# Altium footprint library myConnectors.PcbLib: 58 footprints (part 2 of 4)
Each footprint in its own frame and in the unit in brackets; x right, y up, seen from the top. Pads: shape width x height; smd on the part's side, far side on the other; paste and mask are expansions set on the pad; w line width, h text height; cw(c..) or ccw(c..) is an arc to the next point about the centre after c.
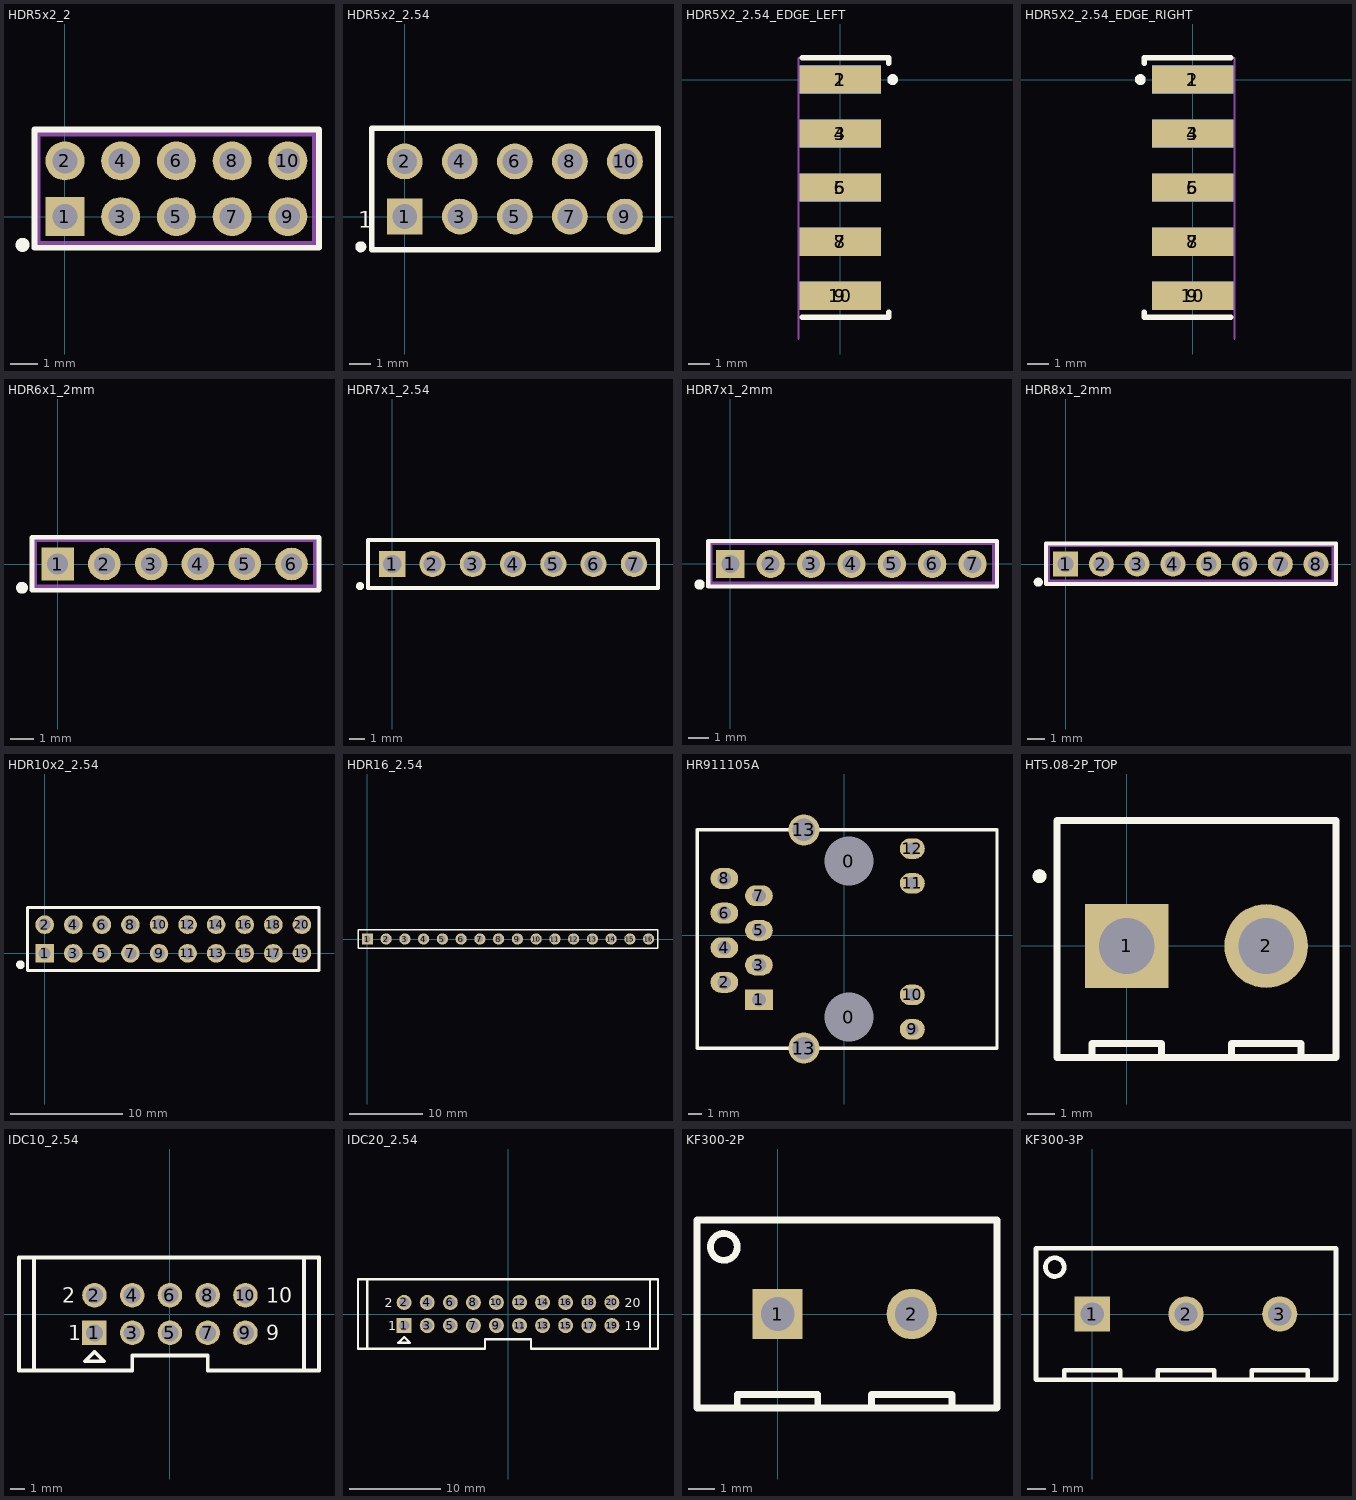
[diagram p1: the footprints below, top view; thin cyan lines are the x and y axes]

## HDR5x2_2 [mil]
height 354.33
pads (10):
  rect 55x55 hole 35: 1(0,0)
  round 55 hole 35: 2(0,78.74) 3(78.74,0) 4(78.74,78.74) 5(157.48,0) 6(157.48,78.74) 7(236.22,0) 8(236.22,78.74) 9(314.96,0) 10(314.96,78.74)
Top Overlay:
  circle w10: c-60,-40 r5
  lines w8: -43,-44 -43,123 359,123 359,-44 -43,-44
Mechanical 13:
  lines w10: -39.37,-39.37 354.33,-39.37 354.33,118.11 -39.37,118.11 -39.37,-39.37
3D body: height 354.33, standoff 0, extent -40,-40 355,120

## HDR5x2_2.54 [mil]
pads (10):
  rect 65x65 hole 45: 1(0,0)
  round 65 hole 45: 2(0,100) 3(100,0) 4(100,100) 5(200,0) 6(200,100) 7(300,0) 8(300,100) 9(400,0) 10(400,100)
Top Overlay:
  circle w10: c-80,-55 r5
  lines w10: -60,-60 -60,160 460,160 460,-60 -60,-60
  text "1" at -85,-20 h30
3D body: height 10, standoff 0, extent -60,-60 460,160

## HDR5X2_2.54_EDGE_LEFT [mil]
height 157.48
pads (10):
  rect 150x52 smd: 1(0,0) 3(0,-100) 5(0,-200) 7(0,-300) 9(0,-400)
  rect 150x52 smd far side: 2(0,0) 4(0,-100) 6(0,-200) 8(0,-300) 10(0,-400)
Top Overlay:
  circle w10: c97,0 r5
  lines w10: -70,-440 90,-440 90,-430 ; -70,40 90,40 90,30
Mechanical 1:
  lines w3.94: -77.03,-480 -77.03,40
  text "Edge" at -70,-441 h9.84
3D body: height 10, standoff 0, extent -70,-420 70,20
3D body: height 10, standoff 0, extent -70,-420 70,20

## HDR5X2_2.54_EDGE_RIGHT [mil]
height 157.48
pads (10):
  rect 150x52 smd: 1(0,0) 3(0,-100) 5(0,-200) 7(0,-300) 9(0,-400)
  rect 150x52 smd far side: 2(0,0) 4(0,-100) 6(0,-200) 8(0,-300) 10(0,-400)
Top Overlay:
  circle w10: c-97,0 r5
  lines w10: -90,-430 -90,-440 70,-440 ; -90,30 -90,40 70,40
Mechanical 1:
  lines w3.94: 77.03,-480 77.03,40
  text "Edge" at 69,-477 h9.84
3D body: height 10, standoff 0, extent -70,-420 70,20
3D body: height 10, standoff 0, extent -70,-420 70,20

## HDR6x1_2mm [mil]
height 354.33
pads (6):
  rect 55x55 hole 35: 1(0,0)
  round 55 hole 35: 2(78.74,0) 3(157.48,0) 4(236.22,0) 5(314.96,0) 6(393.7,0)
Top Overlay:
  circle w10: c-60,-40 r5
  lines w8: -43,-44 -43,45 440,45 440,-44 -43,-44
Mechanical 13:
  lines w10: -39.37,-39.37 435,-39.37 435,42 -39.37,42 -39.37,-39.37
3D body: height 354.33, standoff 0, extent -43,-45 440,45

## HDR7x1_2.54 [mil]
pads (7):
  rect 65x65 hole 45: 1(0,0)
  round 65 hole 45: 2(100,0) 3(200,0) 4(300,0) 5(400,0) 6(500,0) 7(600,0)
Top Overlay:
  circle w10: c-80,-55 r5
  lines w10: -60,-60 -60,60 660,60 660,-60 -60,-60
3D body: height 10, standoff 0, extent -60,-60 660,60

## HDR7x1_2mm [mil]
height 354.33
pads (7):
  rect 55x55 hole 35: 1(0,0)
  round 55 hole 35: 2(78.74,0) 3(157.48,0) 4(236.22,0) 5(314.96,0) 6(393.7,0) 7(472.44,0)
Top Overlay:
  circle w10: c-60,-40 r5
  lines w8: -43,-44 -43,45 520,45 520,-44 -43,-44
Mechanical 13:
  lines w10: -39.37,-39.37 515,-39.37 515,42 -39.37,42 -39.37,-39.37
3D body: height 354.33, standoff 0, extent -40,-40 520,40

## HDR8x1_2mm [mil]
height 354.33
pads (8):
  rect 55x55 hole 35: 1(0,0)
  round 55 hole 35: 2(78.74,0) 3(157.48,0) 4(236.22,0) 5(314.96,0) 6(393.7,0) 7(472.44,0) 8(551.18,0)
Top Overlay:
  circle w10: c-60,-40 r5
  lines w8: -43,-44 595,-44 595,45 -43,45 -43,-44
Mechanical 13:
  lines w10: -39.37,-39.37 -39.37,42 590,42 590,-39.37 -39.37,-39.37
3D body: height 354.33, standoff 0, extent -40,-40 595,40

## HDR10x2_2.54 [mil]
height 354.33
pads (20):
  rect 65x65 hole 42: 1(0,0)
  round 65 hole 42: 2(0,100) 3(100,0) 4(100,100) 5(200,0) 6(200,100) 7(300,0) 8(300,100) 9(400,0) 10(400,100) 11(500,0) 12(500,100) 13(600,0) 14(600,100) 15(700,0) 16(700,100) 17(800,0) 18(800,100) 19(900,0) 20(900,100)
Top Overlay:
  circle w20: c-85,-40 r5
  lines w10: -60,-60 -60,160 960,160 960,-60 -60,-60
3D body: height 354.44, standoff 0, extent -60,-60 960,160

## HDR16_2.54 [mil] "Connector; Header; 16 Position"
pads (16):
  rect 60x60 hole 35.43: 1(0,0)
  round 60 hole 35.43: 2(100,0) 3(200,0) 4(300,0) 5(400,0) 6(500,0) 7(600,0) 8(700,0) 9(800,0) 10(900,0) 11(1000,0) 12(1100,0) 13(1200,0) 14(1300,0) 15(1400,0) 16(1500,0)
Top Overlay:
  lines w7.87: -50,-50 -50,50 25,50 1550,50 1550,-50 -50,-50
3D body: height 100, standoff 0, extent -50,-50 1550,50

## HR911105A [mil] "Ethernet Socket with Transformer"
pads (16):
  round 126 hole 141.6 unplated: 0(13,-236) 0(13,214)
  rect 80x60 hole 40: 1(-247,-186)
  oval 80x60 hole 40: 2(-347,-136) 3(-247,-86) 4(-347,-36) 5(-247,14) 6(-347,64) 7(-247,114) 8(-347,164)
  oval 72x60 hole 36: 9(195.91,-271.63) 10(195.91,-172) 11(195.91,149.87) 12(195.91,250)
  round 90 hole 65: 13(-117.08,-325.76) 13(-117.08,304.16)
Top Overlay:
  lines w10: -425.74,-326 -425.5,-325.76 ; -425.74,304 -425.58,304.16 ; -425.58,304.16 -425.58,-325.69 -425.5,-325.76 ; -425.58,304.16 -117.08,304.16 440.24,304.16 440.4,304 440.4,-326 440.17,-325.76 -117.08,-325.76 -425.5,-325.76
3D body: height 100, standoff 0, extent -425,-326 441,303

## HT5.08-2P_TOP [mil]
height 618.11
pads (2):
  rect 120x120 hole 80: 1(0,0)
  round 120 hole 80: 2(200,0)
Top Overlay:
  circle w10: c-125,100 r5
  lines w10: -50,-160 -50,-140 50,-140 50,-150 50,-160 ; 150,-160 150,-140 250,-140 250,-160 ; -100,-160 300,-160 300,180 -100,180 -100,-160
3D body: height 402, standoff 0, extent -100,-160 300,180

## IDC10_2.54 [mil]
pads (10):
  rect 65x65 hole 45: 1(-200,-50)
  round 65 hole 45: 2(-200,50) 3(-100,-50) 4(-100,50) 5(0,-50) 6(0,50) 7(100,-50) 8(100,50) 9(200,-50) 10(200,50)
Top Overlay:
  lines w10: -360,-150 -360,150 ; 355,-150 355,150 ; -400,-150 -100,-150 -100,-110 100,-110 100,-150 395,-150 395,150 -400,150 -400,-150 ; -225,-125 -200,-100 -175,-125 -225,-125
  text "10" at 255,30 h40
  text "1" at -270,-70 h40
  text "2" at -285,30 h40
  text "9" at 255,-70 h40
3D body: height 10, standoff 0, extent -400,-150 395,150

## IDC20_2.54 [mil]
pads (20):
  rect 65x65 hole 45: 1(-450,-50)
  round 65 hole 45: 2(-450,50) 3(-350,-50) 4(-350,50) 5(-250,-50) 6(-250,50) 7(-150,-50) 8(-150,50) 9(-50,-50) 10(-50,50) 11(50,-50) 12(50,50) 13(150,-50) 14(150,50) 15(250,-50) 16(250,50) 17(350,-50) 18(350,50) 19(450,-50) 20(450,50)
Top Overlay:
  lines w10: -610,-150 -610,150 ; 615,-150 615,150 ; -650,-150 -100,-150 -100,-110 100,-110 100,-150 650,-150 650,150 -650,150 -650,-150 ; -475,-125 -450,-100 -425,-125 -475,-125
  text "20" at 505,30 h40
  text "1" at -520,-70 h40
  text "2" at -535,30 h40
  text "19" at 505,-70 h40
3D body: height 10, standoff 0, extent -650,-150 650,150

## KF300-2P [mil]
pads (2):
  rect 75x75 hole 50: 1(0,0)
  round 75 hole 50: 2(200,0)
Top Overlay:
  circle w10: c-80,100 r20
  lines w10: -60,-140 -60,-120 60,-120 60,-140 ; 140,-140 140,-120 260,-120 260,-140 ; -120,-140 -120,140 327,140 327,-140 -120,-140
3D body: height 10, standoff 0, extent -120,-141 325,140

## KF300-3P [mil]
pads (3):
  rect 75x75 hole 50: 1(0,0)
  round 75 hole 50: 2(200,0) 3(400,0)
Top Overlay:
  circle w10: c-80,100 r20
  lines w10: -60,-140 -60,-120 60,-120 60,-140 ; 140,-140 140,-120 260,-120 260,-140 ; 340,-140 340,-120 460,-120 460,-140 ; -120,-140 520,-140 520,140 -120,140 -120,-140
3D body: height 10, standoff 0, extent -120,-140 520,140